# Altium integrated library JST 1 PIN.IntLib: 1 symbol
Pins are listed as number, name and electrical type; pins without a type are passive.

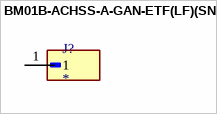
[diagram p0: symbol BM01B-ACHSS-A-GAN-ETF(LF)(SN)]

## BM01B-ACHSS-A-GAN-ETF(LF)(SN)
designator J?
Connector Header Surface Mount, Right Angle 1 position; MF: JST Sales America Inc.; MP: BM01B-ACHSS-A-GAN-ETF(LF)(SN); SnapEDA_Link: https://www.snapeda.com/parts/BM01B-ACHSS-A-GAN-ETF(LF)(SN)/JST/view-part/?ref=snap; Package: None; Value: *; Check_prices: https://www.snapeda.com/parts/BM01B-ACHSS-A-GAN-ETF(LF)(SN)/JST/view-part/?ref=eda
footprint JST_BM01B-ACHSS-A-GAN-ETF(LF)(SN)
pins: 1